# Altium schematic symbol library 1-1337542-0.SchLib: 1 symbol
Pins are listed as number, name and electrical type; pins without a type are passive.

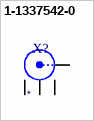
[diagram p0: symbol 1-1337542-0]

## 1-1337542-0
designator X?
ID: 1-1337542-0; PDF: http://www.tme.eu/pl/Document/25055a4639722bf418975994afd68c86/1-1337542-0.pdf; PRICE: *; BUY_LINK: *
footprint 1-1337542-0
pins: 1 X, 2 Y, 3 Y, 4 Y